# Altium schematic symbol library ADP3050AR.Schlib: 1 symbol
Pins are listed as number, name and electrical type; pins without a type are passive.

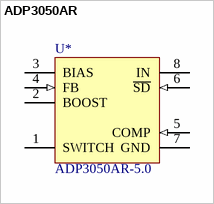
[diagram p0: symbol ADP3050AR]

## ADP3050AR
designator U*, comment ADP3050AR-5.0
200 kHz, 1 A, High-Voltage Step-Down Switching Regulator; Package Information: Latest Revision: Sep-1997; Published: 15-Apr-2002; Datasheet: Latest Revision: Jun-1999; Package Reference: N08E; Publisher: Altium Limited
footprint SO-8
pins: 1 SWITCH (power), 2 BOOST (power), 3 BIAS, 4 FB (in), 5 COMP (in), 6 ~{SD} (in), 7 GND (power), 8 IN (power)